# EAGLE library part TM4C123GH6PMI (library TM4C123GH6PMI)
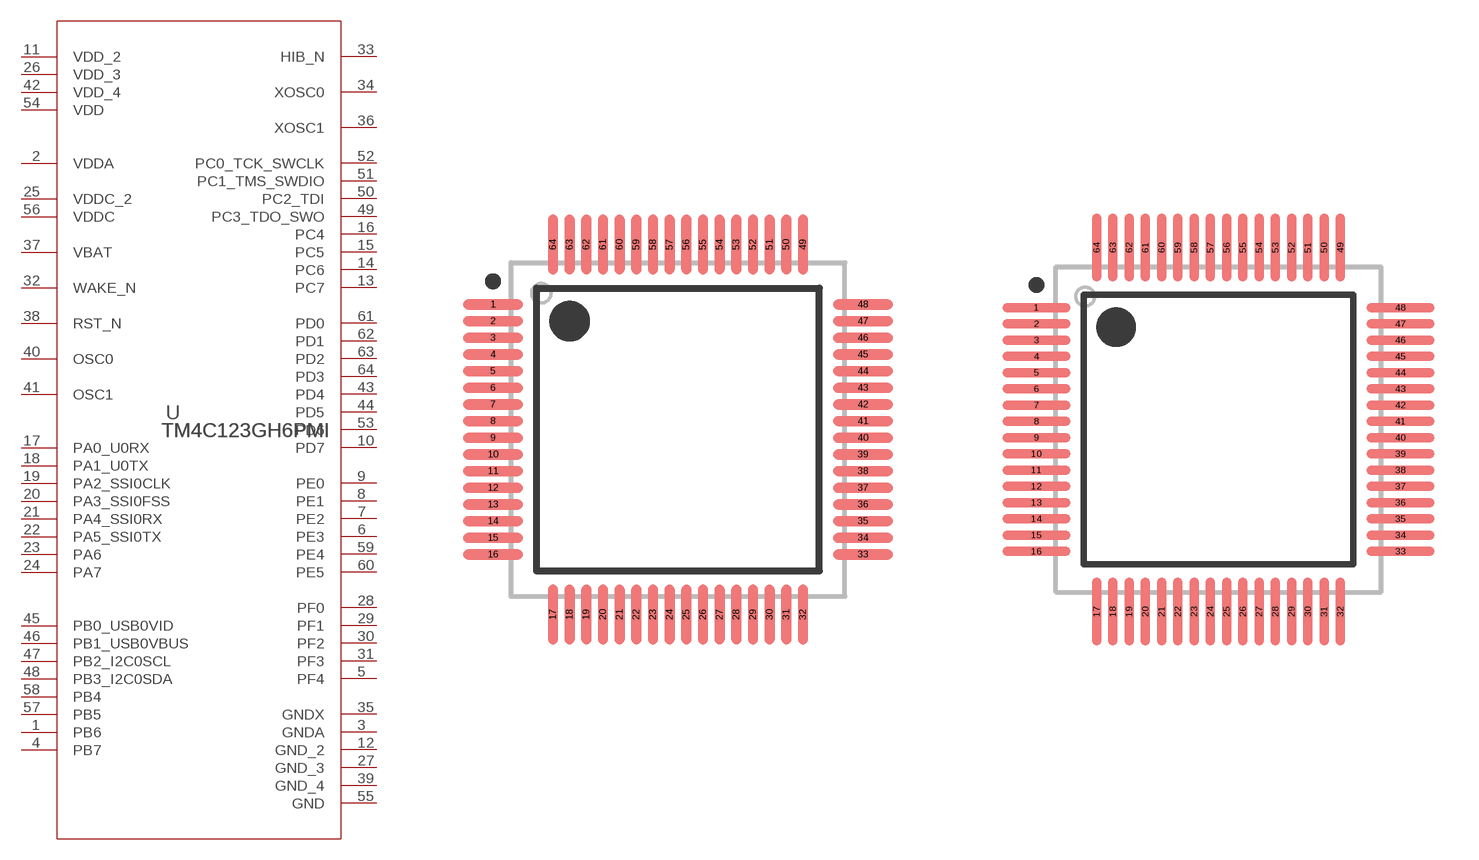
[diagram p0: symbol with the pads of PM0064A_N; footprints PM0064A_N, PM0064A_M]

Designator prefix U

## TM4C123GH6PMI (COPYRIGHT: Copyright (C) 2021 Ultra Librarian. All rights reserved.; MANUFACTURER_PART_NUMBER: TM4C123GH6PMI; MFR_NAME: Texas Instruments; REFDES: RefDes; TYPE: TYPE)  [PM0064A_N]
1  PB6
2  VDDA  pwr
3  GNDA  pwr
4  PB7
5  PF4
6  PE3
7  PE2
8  PE1
9  PE0
10  PD7
11  VDD_2  pwr
12  GND_2  pwr
13  PC7
14  PC6
15  PC5
16  PC4
17  PA0_U0RX
18  PA1_U0TX
19  PA2_SSI0CLK
20  PA3_SSI0FSS
21  PA4_SSI0RX
22  PA5_SSI0TX
23  PA6
24  PA7
25  VDDC_2  pwr
26  VDD_3  pwr
27  GND_3  pwr
28  PF0
29  PF1
30  PF2
31  PF3
32  WAKE_N  in
33  HIB_N  out
34  XOSC0  in
35  GNDX  pwr
36  XOSC1  out
37  VBAT  pwr
38  RST_N  in
39  GND_4  pwr
40  OSC0  in
41  OSC1  out
42  VDD_4  pwr
43  PD4
44  PD5
45  PB0_USB0VID
46  PB1_USB0VBUS
47  PB2_I2C0SCL
48  PB3_I2C0SDA
49  PC3_TDO_SWO
50  PC2_TDI
51  PC1_TMS_SWDIO
52  PC0_TCK_SWCLK
53  PD6
54  VDD  pwr
55  GND  pwr
56  VDDC  pwr
57  PB5
58  PB4
59  PE4
60  PE5
61  PD0
62  PD1
63  PD2
64  PD3

## TM4C123GH6PMIPM0064A_M (COPYRIGHT: Copyright (C) 2021 Ultra Librarian. All rights reserved.; MANUFACTURER_PART_NUMBER: TM4C123GH6PMI; MFR_NAME: Texas Instruments; REFDES: RefDes; TYPE: TYPE)  [PM0064A_M]
Pads as for PM0064A_N

## TM4C123GH6PMIPM0064A_L (COPYRIGHT: Copyright (C) 2021 Ultra Librarian. All rights reserved.; MANUFACTURER_PART_NUMBER: TM4C123GH6PMI; MFR_NAME: Texas Instruments; REFDES: RefDes; TYPE: TYPE)  [PM0064A_L]
Pads as for PM0064A_N

## Footprint PM0064A_N (pad centres in mm)
smd 1.8 x 0.3: 1 -5.55,3.75; 2 -5.55,3.25; 3 -5.55,2.75; 4 -5.55,2.25; 5 -5.55,1.75; 6 -5.55,1.25; 7 -5.55,0.75; 8 -5.55,0.25; 9 -5.55,-0.25; 10 -5.55,-0.75; 11 -5.55,-1.25; 12 -5.55,-1.75; 13 -5.55,-2.25; 14 -5.55,-2.75; 15 -5.55,-3.25; 16 -5.55,-3.75; 33 5.55,-3.75; 34 5.55,-3.25; 35 5.55,-2.75; 36 5.55,-2.25; 37 5.55,-1.75; 38 5.55,-1.25; 39 5.55,-0.75; 40 5.55,-0.25; 41 5.55,0.25; 42 5.55,0.75; 43 5.55,1.25; 44 5.55,1.75; 45 5.55,2.25; 46 5.55,2.75; 47 5.55,3.25; 48 5.55,3.75
smd 0.3 x 1.8: 17 -3.75,-5.55; 18 -3.25,-5.55; 19 -2.75,-5.55; 20 -2.25,-5.55; 21 -1.75,-5.55; 22 -1.25,-5.55; 23 -0.75,-5.55; 24 -0.25,-5.55; 25 0.25,-5.55; 26 0.75,-5.55; 27 1.25,-5.55; 28 1.75,-5.55; 29 2.25,-5.55; 30 2.75,-5.55; 31 3.25,-5.55; 32 3.75,-5.55; 49 3.75,5.55; 50 3.25,5.55; 51 2.75,5.55; 52 2.25,5.55; 53 1.75,5.55; 54 1.25,5.55; 55 0.75,5.55; 56 0.25,5.55; 57 -0.25,5.55; 58 -0.75,5.55; 59 -1.25,5.55; 60 -1.75,5.55; 61 -2.25,5.55; 62 -2.75,5.55; 63 -3.25,5.55; 64 -3.75,5.55

## Footprint PM0064A_M (pad centres in mm)
smd 2.1 x 0.3: 1 -5.6,3.75; 2 -5.6,3.25; 3 -5.6,2.75; 4 -5.6,2.25; 5 -5.6,1.75; 6 -5.6,1.25; 7 -5.6,0.75; 8 -5.6,0.25; 9 -5.6,-0.25; 10 -5.6,-0.75; 11 -5.6,-1.25; 12 -5.6,-1.75; 13 -5.6,-2.25; 14 -5.6,-2.75; 15 -5.6,-3.25; 16 -5.6,-3.75; 33 5.6,-3.75; 34 5.6,-3.25; 35 5.6,-2.75; 36 5.6,-2.25; 37 5.6,-1.75; 38 5.6,-1.25; 39 5.6,-0.75; 40 5.6,-0.25; 41 5.6,0.25; 42 5.6,0.75; 43 5.6,1.25; 44 5.6,1.75; 45 5.6,2.25; 46 5.6,2.75; 47 5.6,3.25; 48 5.6,3.75
smd 0.3 x 2.1: 17 -3.75,-5.6; 18 -3.25,-5.6; 19 -2.75,-5.6; 20 -2.25,-5.6; 21 -1.75,-5.6; 22 -1.25,-5.6; 23 -0.75,-5.6; 24 -0.25,-5.6; 25 0.25,-5.6; 26 0.75,-5.6; 27 1.25,-5.6; 28 1.75,-5.6; 29 2.25,-5.6; 30 2.75,-5.6; 31 3.25,-5.6; 32 3.75,-5.6; 49 3.75,5.6; 50 3.25,5.6; 51 2.75,5.6; 52 2.25,5.6; 53 1.75,5.6; 54 1.25,5.6; 55 0.75,5.6; 56 0.25,5.6; 57 -0.25,5.6; 58 -0.75,5.6; 59 -1.25,5.6; 60 -1.75,5.6; 61 -2.25,5.6; 62 -2.75,5.6; 63 -3.25,5.6; 64 -3.75,5.6

## Footprint PM0064A_L (pad centres in mm)
smd 1.55 x 0.25: 1 -5.525,3.75; 2 -5.525,3.25; 3 -5.525,2.75; 4 -5.525,2.25; 5 -5.525,1.75; 6 -5.525,1.25; 7 -5.525,0.75; 8 -5.525,0.25; 9 -5.525,-0.25; 10 -5.525,-0.75; 11 -5.525,-1.25; 12 -5.525,-1.75; 13 -5.525,-2.25; 14 -5.525,-2.75; 15 -5.525,-3.25; 16 -5.525,-3.75; 33 5.525,-3.75; 34 5.525,-3.25; 35 5.525,-2.75; 36 5.525,-2.25; 37 5.525,-1.75; 38 5.525,-1.25; 39 5.525,-0.75; 40 5.525,-0.25; 41 5.525,0.25; 42 5.525,0.75; 43 5.525,1.25; 44 5.525,1.75; 45 5.525,2.25; 46 5.525,2.75; 47 5.525,3.25; 48 5.525,3.75
smd 0.25 x 1.55: 17 -3.75,-5.525; 18 -3.25,-5.525; 19 -2.75,-5.525; 20 -2.25,-5.525; 21 -1.75,-5.525; 22 -1.25,-5.525; 23 -0.75,-5.525; 24 -0.25,-5.525; 25 0.25,-5.525; 26 0.75,-5.525; 27 1.25,-5.525; 28 1.75,-5.525; 29 2.25,-5.525; 30 2.75,-5.525; 31 3.25,-5.525; 32 3.75,-5.525; 49 3.75,5.525; 50 3.25,5.525; 51 2.75,5.525; 52 2.25,5.525; 53 1.75,5.525; 54 1.25,5.525; 55 0.75,5.525; 56 0.25,5.525; 57 -0.25,5.525; 58 -0.75,5.525; 59 -1.25,5.525; 60 -1.75,5.525; 61 -2.25,5.525; 62 -2.75,5.525; 63 -3.25,5.525; 64 -3.75,5.525